# Altium schematic symbol library AD620BR-REEL7.SchLib: 1 symbol
Pins are listed as number, name and electrical type; pins without a type are passive.

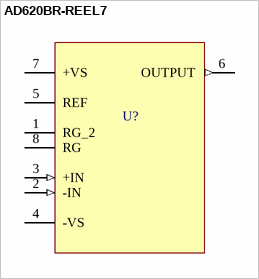
[diagram p0: symbol AD620BR-REEL7]

## AD620BR-REEL7
designator U?
Low Cost Low Power ,Instrumentation Amplifier
pins: 1 RG_2, 2 -IN (in), 3 +IN (in), 4 -VS (power), 5 REF, 6 OUTPUT (out), 7 +VS (power), 8 RG